# Altium footprint library DFN_8.PcbLib: 1 footprints
Each footprint in its own frame and in the unit in brackets; x right, y up, seen from the top. Pads: shape width x height; smd on the part's side, far side on the other; paste and mask are expansions set on the pad; w line width, h text height; cw(c..) or ccw(c..) is an arc to the next point about the centre after c.
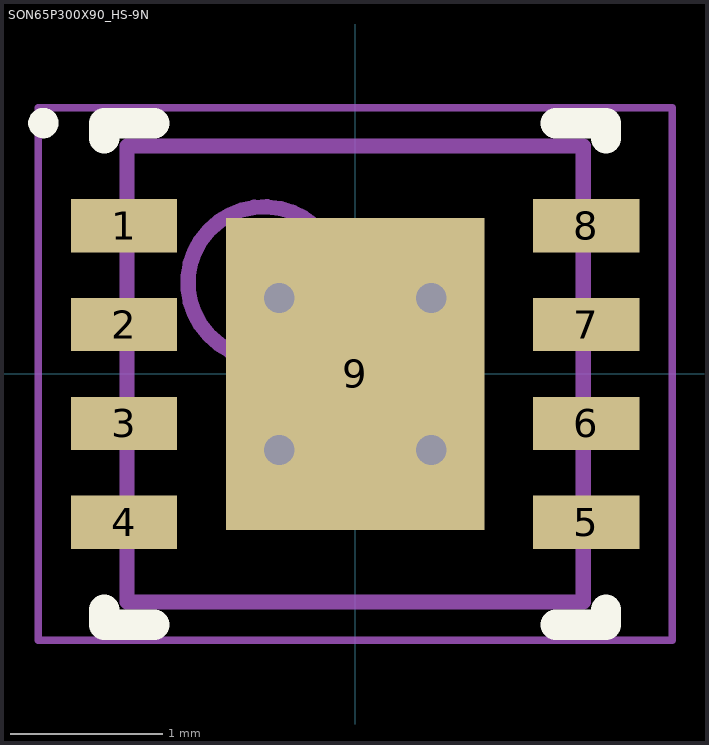
[diagram p0: the footprint, top view; thin cyan lines are the x and y axes]

## SON65P300X90_HS-9N [mm] "SON, 8-Leads, Body 3,00x3,00mm, Pitch 0,65mm, Thermal Pad 2,05x1,70mm, IPC Medium Density"
height 0.9
pads (9):
  rect 0.7x0.35 smd: 1(-1.52,0.975) 2(-1.52,0.325) 3(-1.52,-0.325) 4(-1.52,-0.975) 5(1.52,-0.975) 6(1.52,-0.325) 7(1.52,0.325) 8(1.52,0.975)
  rect 1.7x2.05 smd: 9(0,0)
via 0.5,-0.5 diameter 0.5 hole 0.2
via -0.5,-0.5 diameter 0.5 hole 0.2
via 0.5,0.5 diameter 0.5 hole 0.2
via -0.5,0.5 diameter 0.5 hole 0.2
Top Overlay:
  circle w0.1: c-2.05,1.65 r0.05
  lines w0.2: -1.65,-1.55 -1.65,-1.65 -1.32,-1.65 ; -1.65,1.55 -1.65,1.65 -1.32,1.65 ; 1.32,-1.65 1.65,-1.65 1.65,-1.55 ; 1.32,1.65 1.65,1.65 1.65,1.55
Mechanical 13:
  circle w0.1: c-0.6,0.6 r0.5
  lines w0.1: -1.5,-1.5 1.5,-1.5 1.5,1.5 -1.5,1.5 -1.5,-1.5
Mechanical 15:
  lines w0.05: -2.085,-1.75 2.085,-1.75 2.085,1.75 -2.085,1.75 -2.085,-1.75
  lines w0.1: -0.5,0 0.5,0 ; 0,-0.5 0,0.5
3D body "SON65P300X90_HS-9N.step": height 0.9, standoff 0, extent -1.5,-1.5 1.5,1.5